# EAGLE library part TLP552 (library TLP552)
Optocoupler
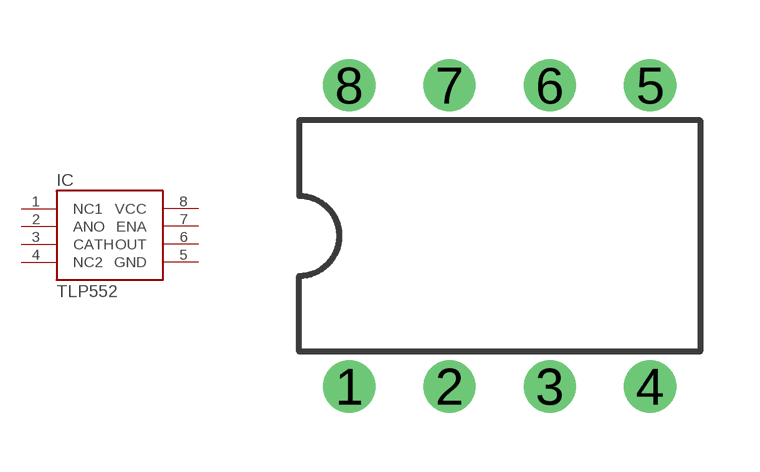
[diagram p0: symbol with the pads of DIL08; footprint DIL08]

Designator prefix IC

## TLP552  [DIL08]
1  NC1
2  ANO
3  CATH
4  NC2
5  GND
6  OUT
7  ENA
8  VCC

## Footprint DIL08 (pad centres in mm)
Dual In Line Package
drill 0.813 pad 1.27: 1 -3.81,-3.81; 2 -1.27,-3.81; 3 1.27,-3.81; 4 3.81,-3.81; 5 3.81,3.81; 6 1.27,3.81; 7 -1.27,3.81; 8 -3.81,3.81